# Altium schematic symbol library RCLAMP0504F.TCT.SchLib: 1 symbol
Pins are listed as number, name and electrical type; pins without a type are passive.

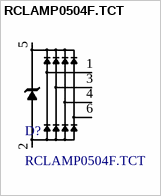
[diagram p0: symbol RCLAMP0504F.TCT]

## RCLAMP0504F.TCT
designator D?
23V Clamp 6A (8/20µs) Ipp Tvs Diode Surface Mount SC-70-6; Type: RCLAMP0504F.TCT; Supplier 1: Digi-Key; Supplier Part Number 1: RCLAMP0504FCT-ND
footprint SOT23-6L_0.65_C (SOT23, 6-Leads, Body 2.00x2.10mm, Pitch 0.65mm, IPC High Density)
pins: 1, 2, 3, 4, 5, 6